# Altium footprint library PcbLib1.PcbLib: 2 footprints
Each footprint in its own frame and in the unit in brackets; x right, y up, seen from the top. Pads: shape width x height; smd on the part's side, far side on the other; paste and mask are expansions set on the pad; w line width, h text height; cw(c..) or ccw(c..) is an arc to the next point about the centre after c.
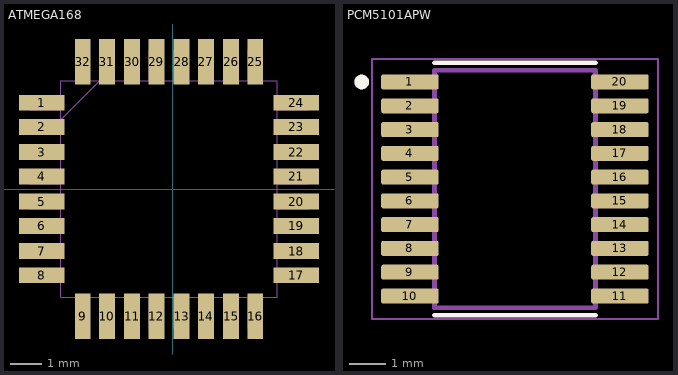
[diagram p0: the footprints below, top view; thin cyan lines are the x and y axes]

## ATMEGA168 [mil]
pads (32):
  rect 58x20 smd: 1(-167,110) 2(-167,79) 3(-167,47) 4(-167,16) 5(-167,-16) 6(-167,-47) 7(-167,-79) 8(-167,-110) 17(157,-110) 18(157,-79) 19(157,-47) 20(157,-16) 21(157,16) 22(157,47) 23(157,79) 24(157,110)
  rect 20x58 smd: 9(-115,-162) 10(-84,-162) 11(-52,-162) 12(-21,-162) 13(11,-162) 14(42,-162) 15(74,-162) 16(105,-162) 25(105,162) 26(74,162) 27(42,162) 28(11,162) 29(-21,162) 30(-52,162) 31(-84,162) 32(-115,162)
Mechanical 13:
  drawing of 169 lines, arcs and shapes, not listed
3D body "ATMEGA168-20AU.STEP": height 46.26, standoff -0.98, extent -182.16,-177.16 172.17,177.17

## PCM5101APW [mm]
pads (20):
  rrect25% 1.57x0.41 smd: 1(415.341,-153.793) 2(415.341,-154.443) 3(415.341,-155.093) 4(415.341,-155.743) 5(415.341,-156.393) 6(415.341,-157.043) 7(415.341,-157.693) 8(415.341,-158.343) 9(415.341,-158.993) 10(415.341,-159.643) 11(421.081,-159.643) 12(421.081,-158.993) 13(421.081,-158.343) 14(421.081,-157.693) 15(421.081,-157.043) 16(421.081,-156.393) 17(421.081,-155.743) 18(421.081,-155.093) 19(421.081,-154.443) 20(421.081,-153.793)
Top Overlay:
  circle w0.2: c414.021,-153.793 r0.1
  lines w0.127: 416.011,-160.168 420.411,-160.168 ; 416.011,-153.268 420.411,-153.268
Mechanical 13:
  circle w0.2: c414.021,-153.793 r0.1
  lines w0.127: 416.011,-159.968 420.411,-159.968 420.411,-153.468 416.011,-153.468 416.011,-159.968
Mechanical 15:
  lines w0.05: 414.301,-160.268 422.121,-160.268 422.121,-153.168 414.301,-153.168 414.301,-160.268
3D body "PCM5101APW.STEP": height 1.2, standoff 0, extent 415.011,-159.968 421.411,-153.468